# Altium footprint library CONN_TBLOCK_5P0_B.PcbLib: 72 footprints (part 5 of 5)
Each footprint in its own frame and in the unit in brackets; x right, y up, seen from the top. Pads: shape width x height; smd on the part's side, far side on the other; paste and mask are expansions set on the pad; w line width, h text height; cw(c..) or ccw(c..) is an arc to the next point about the centre after c.
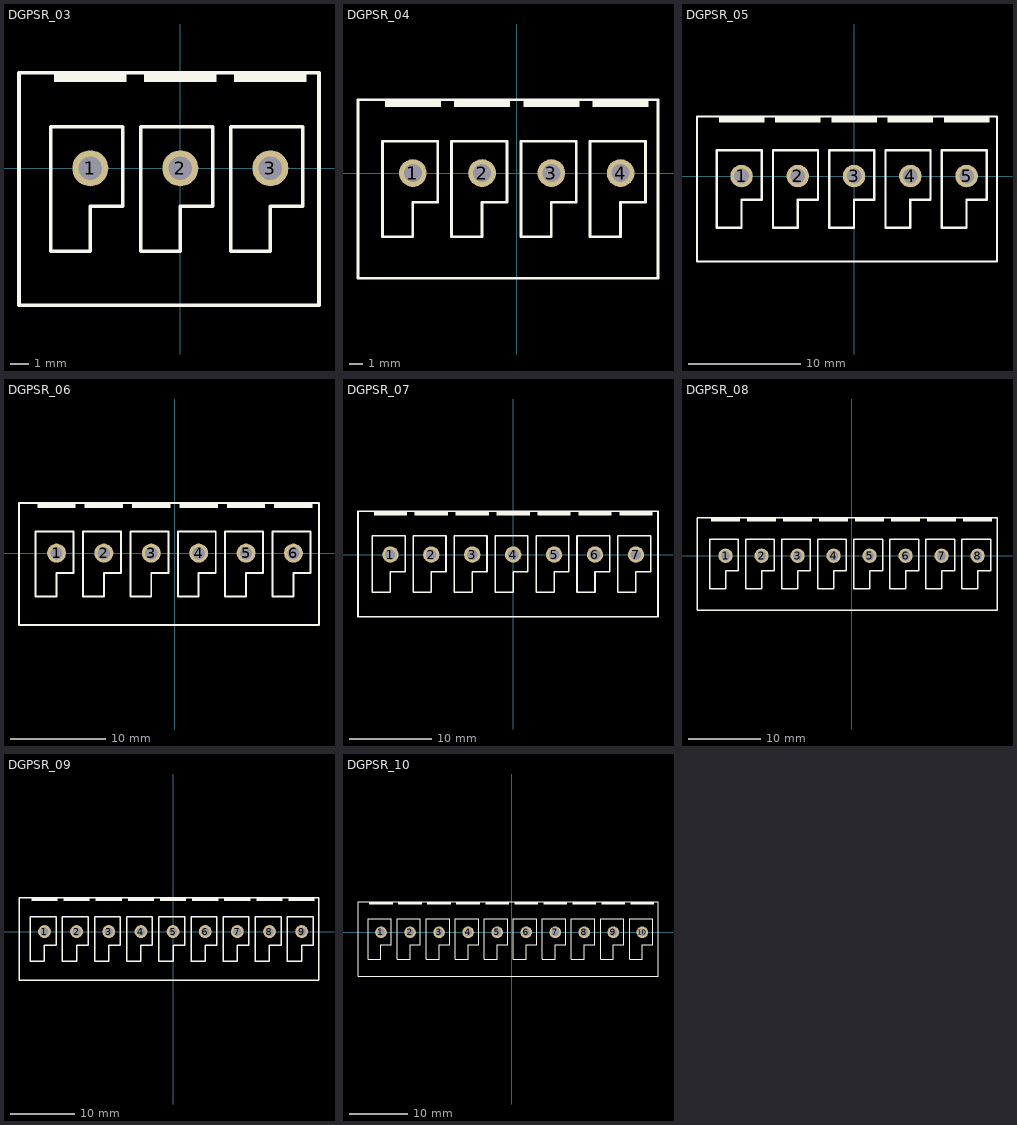
[diagram p4: the footprints below, top view; thin cyan lines are the x and y axes]

## DGPSR_03 [mm] "Terminal Block Spring, Pitch 5mm, DGPS2.5R-5.0"
height 13.9
pads (3):
  round 2 / inner round 2 / far side rect 2.4x3 hole 1.3: 1(-5,0)
  round 2 / inner round 2 / far side oval 2.4x3 hole 1.3: 2(0,0) 3(5,0)
Top Overlay:
  region: 3,4.8 3,5.3 7,5.3 7,4.8
  region: -2,4.8 -2,5.3 2,5.3 2,4.8
  region: -7,4.8 -7,5.3 -3,5.3 -3,4.8
  lines w0.2: -8.96,-7.6 -8.96,5.3 7.7,5.3 7.7,-7.6 -8.96,-7.6 ; -7.2,-4.6 -7.2,2.3 -3.2,2.3 -3.2,-2.1 -5,-2.1 -5,-4.6 -7.2,-4.6 ; -2.2,-4.6 -2.2,2.3 1.8,2.3 1.8,-2.1 0,-2.1 0,-4.6 -2.2,-4.6 ; 2.8,-4.6 2.8,2.3 6.8,2.3 6.8,-2.1 5,-2.1 5,-4.6 2.8,-4.6
3D body "DGPS2.5R-5.0-03P.stp": height 13.91, standoff -3.5, extent -8.91,-7.5 7.59,5.2

## DGPSR_04 [mm] "Terminal Block Spring, Pitch 5mm, DGPS2.5R-5.0"
height 13.9
pads (4):
  round 2 / inner round 2 / far side rect 2.4x3 hole 1.3: 1(-7.5,0)
  round 2 / inner round 2 / far side oval 2.4x3 hole 1.3: 2(-2.5,0) 3(2.5,0) 4(7.5,0)
Top Overlay:
  region: 5.5,4.8 5.5,5.3 9.5,5.3 9.5,4.8
  region: 0.5,4.8 0.5,5.3 4.5,5.3 4.5,4.8
  region: -4.5,4.8 -4.5,5.3 -0.5,5.3 -0.5,4.8
  region: -9.5,4.8 -9.5,5.3 -5.5,5.3 -5.5,4.8
  lines w0.2: -11.46,-7.6 -11.46,5.3 10.2,5.3 10.2,-7.6 -11.46,-7.6 ; -9.7,-4.6 -9.7,2.3 -5.7,2.3 -5.7,-2.1 -7.5,-2.1 -7.5,-4.6 -9.7,-4.6 ; -4.7,-4.6 -4.7,2.3 -0.7,2.3 -0.7,-2.1 -2.5,-2.1 -2.5,-4.6 -4.7,-4.6 ; 0.3,-4.6 0.3,2.3 4.3,2.3 4.3,-2.1 2.5,-2.1 2.5,-4.6 0.3,-4.6 ; 5.3,-4.6 5.3,2.3 9.3,2.3 9.3,-2.1 7.5,-2.1 7.5,-4.6 5.3,-4.6
3D body "DGPS2.5R-5.0-02P.stp": height 13.91, standoff -3.5, extent -11.41,-7.5 0.09,5.2
3D body "DGPS2.5R-5.0-02P.stp": height 13.91, standoff -3.5, extent -1.41,-7.5 10.09,5.2

## DGPSR_05 [mm] "Terminal Block Spring, Pitch 5mm, DGPS2.5R-5.0"
height 13.9
pads (5):
  round 2 / inner round 2 / far side rect 2.4x3 hole 1.3: 1(-10,0)
  round 2 / inner round 2 / far side oval 2.4x3 hole 1.3: 2(-5,0) 3(0,0) 4(5,0) 5(10,0)
Top Overlay:
  region: -12,4.8 -12,5.3 -8,5.3 -8,4.8
  region: -7,4.8 -7,5.3 -3,5.3 -3,4.8
  region: -2,4.8 -2,5.3 2,5.3 2,4.8
  region: 3,4.8 3,5.3 7,5.3 7,4.8
  region: 8,4.8 8,5.3 12,5.3 12,4.8
  lines w0.2: -13.96,-7.6 12.7,-7.6 12.7,5.3 -13.96,5.3 -13.96,-7.6 ; -12.2,-4.6 -10,-4.6 -10,-2.1 -8.2,-2.1 -8.2,2.3 -12.2,2.3 -12.2,-4.6 ; -7.2,-4.6 -5,-4.6 -5,-2.1 -3.2,-2.1 -3.2,2.3 -7.2,2.3 -7.2,-4.6 ; -2.2,-4.6 0,-4.6 0,-2.1 1.8,-2.1 1.8,2.3 -2.2,2.3 -2.2,-4.6 ; 2.8,-4.6 5,-4.6 5,-2.1 6.8,-2.1 6.8,2.3 2.8,2.3 2.8,-4.6 ; 7.8,-4.6 10,-4.6 10,-2.1 11.8,-2.1 11.8,2.3 7.8,2.3 7.8,-4.6
3D body "DGPS2.5R-5.0-02P.stp": height 13.91, standoff -3.5, extent -13.91,-7.5 -2.41,5.2
3D body "DGPS2.5R-5.0-03P.stp": height 13.91, standoff -3.5, extent -3.91,-7.5 12.59,5.2

## DGPSR_06 [mm] "Terminal Block Spring, Pitch 5mm, DGPS2.5R-5.0"
height 13.9
pads (6):
  round 2 / inner round 2 / far side rect 2.4x3 hole 1.3: 1(-12.5,0)
  round 2 / inner round 2 / far side oval 2.4x3 hole 1.3: 2(-7.5,0) 3(-2.5,0) 4(2.5,0) 5(7.5,0) 6(12.5,0)
Top Overlay:
  region: 10.5,4.8 10.5,5.3 14.5,5.3 14.5,4.8
  region: 5.5,4.8 5.5,5.3 9.5,5.3 9.5,4.8
  region: 0.5,4.8 0.5,5.3 4.5,5.3 4.5,4.8
  region: -4.5,4.8 -4.5,5.3 -0.5,5.3 -0.5,4.8
  region: -9.5,4.8 -9.5,5.3 -5.5,5.3 -5.5,4.8
  region: -14.5,4.8 -14.5,5.3 -10.5,5.3 -10.5,4.8
  lines w0.2: -16.46,-7.6 -16.46,5.3 15.2,5.3 15.2,-7.6 -16.46,-7.6 ; -14.7,-4.6 -14.7,2.3 -10.7,2.3 -10.7,-2.1 -12.5,-2.1 -12.5,-4.6 -14.7,-4.6 ; -9.7,-4.6 -9.7,2.3 -5.7,2.3 -5.7,-2.1 -7.5,-2.1 -7.5,-4.6 -9.7,-4.6 ; -4.7,-4.6 -4.7,2.3 -0.7,2.3 -0.7,-2.1 -2.5,-2.1 -2.5,-4.6 -4.7,-4.6 ; 0.3,-4.6 0.3,2.3 4.3,2.3 4.3,-2.1 2.5,-2.1 2.5,-4.6 0.3,-4.6 ; 5.3,-4.6 5.3,2.3 9.3,2.3 9.3,-2.1 7.5,-2.1 7.5,-4.6 5.3,-4.6 ; 10.3,-4.6 10.3,2.3 14.3,2.3 14.3,-2.1 12.5,-2.1 12.5,-4.6 10.3,-4.6
3D body "DGPS2.5R-5.0-03P.stp": height 13.91, standoff -3.5, extent -1.41,-7.5 15.09,5.2
3D body "DGPS2.5R-5.0-03P.stp": height 13.91, standoff -3.5, extent -16.41,-7.5 0.09,5.2

## DGPSR_07 [mm] "Terminal Block Spring, Pitch 5mm, DGPS2.5R-5.0"
height 13.9
pads (7):
  round 2 / inner round 2 / far side rect 2.4x3 hole 1.3: 1(-15,0)
  round 2 / inner round 2 / far side oval 2.4x3 hole 1.3: 2(-10,0) 3(-5,0) 4(0,0) 5(5,0) 6(10,0) 7(15,0)
Top Overlay:
  region: 13,4.8 13,5.3 17,5.3 17,4.8
  region: 8,4.8 8,5.3 12,5.3 12,4.8
  region: 3,4.8 3,5.3 7,5.3 7,4.8
  region: -2,4.8 -2,5.3 2,5.3 2,4.8
  region: -7,4.8 -7,5.3 -3,5.3 -3,4.8
  region: -12,4.8 -12,5.3 -8,5.3 -8,4.8
  region: -17,4.8 -17,5.3 -13,5.3 -13,4.8
  lines w0.2: -18.96,-7.6 -18.96,5.3 17.7,5.3 17.7,-7.6 -18.96,-7.6 ; -17.2,-4.6 -17.2,2.3 -13.2,2.3 -13.2,-2.1 -15,-2.1 -15,-4.6 -17.2,-4.6 ; -12.2,-4.6 -12.2,2.3 -8.2,2.3 -8.2,-2.1 -10,-2.1 -10,-4.6 -12.2,-4.6 ; -7.2,-4.6 -7.2,2.3 -3.2,2.3 -3.2,-2.1 -5,-2.1 -5,-4.6 -7.2,-4.6 ; -2.2,-4.6 -2.2,2.3 1.8,2.3 1.8,-2.1 0,-2.1 0,-4.6 -2.2,-4.6 ; 2.8,-4.6 2.8,2.3 6.8,2.3 6.8,-2.1 5,-2.1 5,-4.6 2.8,-4.6 ; 7.8,-4.6 7.8,2.3 11.8,2.3 11.8,-2.1 10,-2.1 10,-4.6 7.8,-4.6 ; 12.8,-4.6 12.8,2.3 16.8,2.3 16.8,-2.1 15,-2.1 15,-4.6 12.8,-4.6
3D body "DGPS2.5R-5.0-02P.stp": height 13.91, standoff -3.5, extent 6.09,-7.5 17.59,5.2
3D body "DGPS2.5R-5.0-03P.stp": height 13.91, standoff -3.5, extent -8.91,-7.5 7.59,5.2
3D body "DGPS2.5R-5.0-02P.stp": height 13.91, standoff -3.5, extent -18.91,-7.5 -7.41,5.2

## DGPSR_08 [mm] "Terminal Block Spring, Pitch 5mm, DGPS2.5R-5.0"
height 13.9
pads (8):
  round 2 / inner round 2 / far side rect 2.4x3 hole 1.3: 1(-17.5,0)
  round 2 / inner round 2 / far side oval 2.4x3 hole 1.3: 2(-12.5,0) 3(-7.5,0) 4(-2.5,0) 5(2.5,0) 6(7.5,0) 7(12.5,0) 8(17.5,0)
Top Overlay:
  region: 15.5,4.8 15.5,5.3 19.5,5.3 19.5,4.8
  region: 10.5,4.8 10.5,5.3 14.5,5.3 14.5,4.8
  region: 5.5,4.8 5.5,5.3 9.5,5.3 9.5,4.8
  region: 0.5,4.8 0.5,5.3 4.5,5.3 4.5,4.8
  region: -4.5,4.8 -4.5,5.3 -0.5,5.3 -0.5,4.8
  region: -9.5,4.8 -9.5,5.3 -5.5,5.3 -5.5,4.8
  region: -14.5,4.8 -14.5,5.3 -10.5,5.3 -10.5,4.8
  region: -19.5,4.8 -19.5,5.3 -15.5,5.3 -15.5,4.8
  lines w0.2: -21.46,-7.6 -21.46,5.3 20.2,5.3 20.2,-7.6 -21.46,-7.6 ; -19.7,-4.6 -19.7,2.3 -15.7,2.3 -15.7,-2.1 -17.5,-2.1 -17.5,-4.6 -19.7,-4.6 ; -14.7,-4.6 -14.7,2.3 -10.7,2.3 -10.7,-2.1 -12.5,-2.1 -12.5,-4.6 -14.7,-4.6 ; -9.7,-4.6 -9.7,2.3 -5.7,2.3 -5.7,-2.1 -7.5,-2.1 -7.5,-4.6 -9.7,-4.6 ; -4.7,-4.6 -4.7,2.3 -0.7,2.3 -0.7,-2.1 -2.5,-2.1 -2.5,-4.6 -4.7,-4.6 ; 0.3,-4.6 0.3,2.3 4.3,2.3 4.3,-2.1 2.5,-2.1 2.5,-4.6 0.3,-4.6 ; 5.3,-4.6 5.3,2.3 9.3,2.3 9.3,-2.1 7.5,-2.1 7.5,-4.6 5.3,-4.6 ; 10.3,-4.6 10.3,2.3 14.3,2.3 14.3,-2.1 12.5,-2.1 12.5,-4.6 10.3,-4.6 ; 15.3,-4.6 15.3,2.3 19.3,2.3 19.3,-2.1 17.5,-2.1 17.5,-4.6 15.3,-4.6
3D body "DGPS2.5R-5.0-03P.stp": height 13.91, standoff -3.5, extent 3.59,-7.5 20.09,5.2
3D body "DGPS2.5R-5.0-03P.stp": height 13.91, standoff -3.5, extent -11.41,-7.5 5.09,5.2
3D body "DGPS2.5R-5.0-02P.stp": height 13.91, standoff -3.5, extent -21.41,-7.5 -9.91,5.2

## DGPSR_09 [mm] "Terminal Block Spring, Pitch 5mm, DGPS2.5R-5.0"
height 13.9
pads (9):
  round 2 / inner round 2 / far side rect 2.4x3 hole 1.3: 1(-20,0)
  round 2 / inner round 2 / far side oval 2.4x3 hole 1.3: 2(-15,0) 3(-10,0) 4(-5,0) 5(0,0) 6(5,0) 7(10,0) 8(15,0) 9(20,0)
Top Overlay:
  region: -22,4.8 -22,5.3 -18,5.3 -18,4.8
  region: -17,4.8 -17,5.3 -13,5.3 -13,4.8
  region: -12,4.8 -12,5.3 -8,5.3 -8,4.8
  region: -7,4.8 -7,5.3 -3,5.3 -3,4.8
  region: -2,4.8 -2,5.3 2,5.3 2,4.8
  region: 3,4.8 3,5.3 7,5.3 7,4.8
  region: 8,4.8 8,5.3 12,5.3 12,4.8
  region: 13,4.8 13,5.3 17,5.3 17,4.8
  region: 18,4.8 18,5.3 22,5.3 22,4.8
  lines w0.2: -23.96,-7.6 22.7,-7.6 22.7,5.3 -23.96,5.3 -23.96,-7.6 ; -22.2,-4.6 -20,-4.6 -20,-2.1 -18.2,-2.1 -18.2,2.3 -22.2,2.3 -22.2,-4.6 ; -17.2,-4.6 -15,-4.6 -15,-2.1 -13.2,-2.1 -13.2,2.3 -17.2,2.3 -17.2,-4.6 ; -12.2,-4.6 -10,-4.6 -10,-2.1 -8.2,-2.1 -8.2,2.3 -12.2,2.3 -12.2,-4.6 ; -7.2,-4.6 -5,-4.6 -5,-2.1 -3.2,-2.1 -3.2,2.3 -7.2,2.3 -7.2,-4.6 ; -2.2,-4.6 0,-4.6 0,-2.1 1.8,-2.1 1.8,2.3 -2.2,2.3 -2.2,-4.6 ; 2.8,-4.6 5,-4.6 5,-2.1 6.8,-2.1 6.8,2.3 2.8,2.3 2.8,-4.6 ; 7.8,-4.6 10,-4.6 10,-2.1 11.8,-2.1 11.8,2.3 7.8,2.3 7.8,-4.6 ; 12.8,-4.6 15,-4.6 15,-2.1 16.8,-2.1 16.8,2.3 12.8,2.3 12.8,-4.6 ; 17.8,-4.6 20,-4.6 20,-2.1 21.8,-2.1 21.8,2.3 17.8,2.3 17.8,-4.6
3D body "DGPS2.5R-5.0-03P.stp": height 13.91, standoff -3.5, extent -23.91,-7.5 -7.41,5.2
3D body "DGPS2.5R-5.0-03P.stp": height 13.91, standoff -3.5, extent -8.91,-7.5 7.59,5.2
3D body "DGPS2.5R-5.0-03P.stp": height 13.91, standoff -3.5, extent 6.09,-7.5 22.59,5.2

## DGPSR_10 [mm] "Terminal Block Spring, Pitch 5mm, DGPS2.5R-5.0"
height 13.9
pads (10):
  round 2 / inner round 2 / far side rect 2.4x3 hole 1.3: 1(-22.5,0)
  round 2 / inner round 2 / far side oval 2.4x3 hole 1.3: 2(-17.5,0) 3(-12.5,0) 4(-7.5,0) 5(-2.5,0) 6(2.5,0) 7(7.5,0) 8(12.5,0) 9(17.5,0) 10(22.5,0)
Top Overlay:
  region: -24.5,4.8 -24.5,5.3 -20.5,5.3 -20.5,4.8
  region: -19.5,4.8 -19.5,5.3 -15.5,5.3 -15.5,4.8
  region: -14.5,4.8 -14.5,5.3 -10.5,5.3 -10.5,4.8
  region: -9.5,4.8 -9.5,5.3 -5.5,5.3 -5.5,4.8
  region: -4.5,4.8 -4.5,5.3 -0.5,5.3 -0.5,4.8
  region: 0.5,4.8 0.5,5.3 4.5,5.3 4.5,4.8
  region: 5.5,4.8 5.5,5.3 9.5,5.3 9.5,4.8
  region: 10.5,4.8 10.5,5.3 14.5,5.3 14.5,4.8
  region: 15.5,4.8 15.5,5.3 19.5,5.3 19.5,4.8
  region: 20.5,4.8 20.5,5.3 24.5,5.3 24.5,4.8
  lines w0.2: -26.46,-7.6 25.2,-7.6 25.2,5.3 -26.46,5.3 -26.46,-7.6 ; -24.7,-4.6 -22.5,-4.6 -22.5,-2.1 -20.7,-2.1 -20.7,2.3 -24.7,2.3 -24.7,-4.6 ; -19.7,-4.6 -17.5,-4.6 -17.5,-2.1 -15.7,-2.1 -15.7,2.3 -19.7,2.3 -19.7,-4.6 ; -14.7,-4.6 -12.5,-4.6 -12.5,-2.1 -10.7,-2.1 -10.7,2.3 -14.7,2.3 -14.7,-4.6 ; -9.7,-4.6 -7.5,-4.6 -7.5,-2.1 -5.7,-2.1 -5.7,2.3 -9.7,2.3 -9.7,-4.6 ; -4.7,-4.6 -2.5,-4.6 -2.5,-2.1 -0.7,-2.1 -0.7,2.3 -4.7,2.3 -4.7,-4.6 ; 0.3,-4.6 2.5,-4.6 2.5,-2.1 4.3,-2.1 4.3,2.3 0.3,2.3 0.3,-4.6 ; 5.3,-4.6 7.5,-4.6 7.5,-2.1 9.3,-2.1 9.3,2.3 5.3,2.3 5.3,-4.6 ; 10.3,-4.6 12.5,-4.6 12.5,-2.1 14.3,-2.1 14.3,2.3 10.3,2.3 10.3,-4.6 ; 15.3,-4.6 17.5,-4.6 17.5,-2.1 19.3,-2.1 19.3,2.3 15.3,2.3 15.3,-4.6 ; 20.3,-4.6 22.5,-4.6 22.5,-2.1 24.3,-2.1 24.3,2.3 20.3,2.3 20.3,-4.6
3D body "DGPS2.5R-5.0-02P.stp": height 13.91, standoff -3.5, extent -26.41,-7.5 -14.91,5.2
3D body "DGPS2.5R-5.0-03P.stp": height 13.91, standoff -3.5, extent -16.41,-7.5 0.09,5.2
3D body "DGPS2.5R-5.0-02P.stp": height 13.91, standoff -3.5, extent -1.41,-7.5 10.09,5.2
3D body "DGPS2.5R-5.0-03P.stp": height 13.91, standoff -3.5, extent 8.59,-7.5 25.09,5.2